# EAGLE library part AS72651 (library Lagopus_A_2)
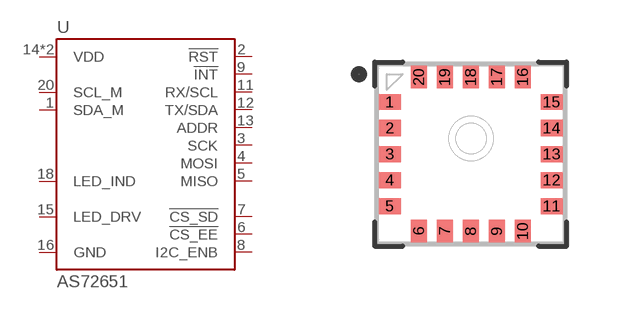
[diagram p0: symbol with the pads of LGA20; footprint LGA20]

Designator prefix U

## AS72651 (PROD_ID: IC-14127)  [LGA20]
1  SDA_M
2  !RST
3  SCK
4  MOSI
5  MISO
6  !CS_EE
7  !CS_SD
8  I2C_ENB
9  !INT
11  RX/SCL
12  TX/SDA
13  ADDR
14  VDD
15  LED_DRV
16  GND
17  VDD
18  LED_IND
20  SCL_M

## Footprint LGA20 (pad centres in mm)
smd 0.55 x 0.4: 1 -2.025,1.3; 2 -2.025,0.65; 3 -2.025,0; 4 -2.025,-0.65; 5 -2.025,-1.3; 11 2.025,-1.3; 12 2.025,-0.65; 13 2.025,0; 14 2.025,0.65; 15 2.025,1.3
smd 0.4 x 0.55: 6 -1.3,-1.925; 7 -0.65,-1.925; 8 0,-1.925; 9 0.65,-1.925; 10 1.3,-1.925; 16 1.3,1.925; 17 0.65,1.925; 18 0,1.925; 19 -0.65,1.925; 20 -1.3,1.925